# EAGLE library part TPA6111 (library packages(ti))
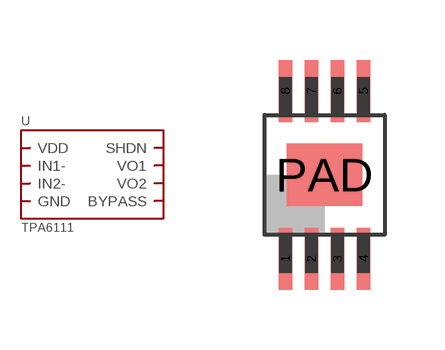
[diagram p9: symbol with the pads of DGN; footprint DGN]

Designator prefix U

## TPA6111.DGN  [DGN]
1  VO1
2  IN1-
3  BYPASS
4  GND
5  SHDN
6  IN2-
7  VO2
8  VDD
PAD  GND

## Footprint DGN (pad centres in mm)
smd 0.33 x 1.55: 1 -0.975,-2.1; 2 -0.325,-2.1; 3 0.325,-2.1; 4 0.975,-2.1; 5 0.975,2.1; 6 0.325,2.1; 7 -0.325,2.1; 8 -0.975,2.1
smd 1.89 x 1.57: PAD 0,0